# Altium schematic symbol library LED Oscilloscope_Schlib.SchLib: 8 symbols
Pins are listed as number, name and electrical type; pins without a type are passive.

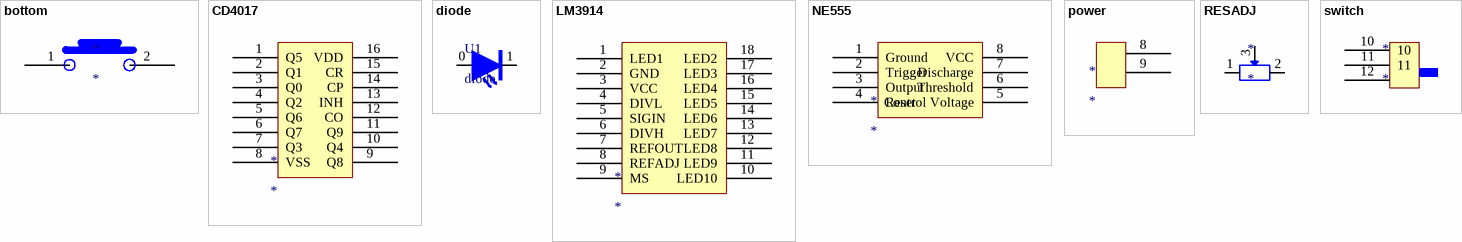
[diagram p0: symbols bottom to switch]

## bottom
designator *
footprint bottom
pins: 1, 2

## CD4017
designator *
footprint CD4017
pins: 1 Q5, 2 Q1, 3 Q0, 4 Q2, 5 Q6, 6 Q7, 7 Q3, 8 VSS, 9 Q8, 10 Q4, 11 Q9, 12 CO, 13 INH, 14 CP, 15 CR, 16 VDD

## diode
designator U1
own use
footprint LED
pins: 0, 1

## LM3914
designator *
footprint LM3914
pins: 1 LED1, 2 GND, 3 VCC, 4 DIVL, 5 SIGIN, 6 DIVH, 7 REFOUT, 8 REFADJ, 9 MS, 10 LED10, 11 LED9, 12 LED8, 13 LED7, 14 LED6, 15 LED5, 16 LED4, 17 LED3, 18 LED2

## NE555
designator *
footprint NE555 - duplicate
pins: 1 Ground, 2 Trigger, 3 Output, 4 Reset, 5 Control Voltage, 6 Threshold, 7 Discharge, 8 VCC

## power
designator *
footprint Power
pins: 8, 9

## RESADJ
designator *
footprint RESADJ
pins: 1 2, 2 3, 3

## switch
designator *
footprint switch
pins: 10, 11, 12